# Altium schematic symbol library Crystals.SchLib: 2 symbols
Pins are listed as number, name and electrical type; pins without a type are passive.

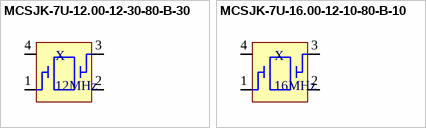
[diagram p0: symbols MCSJK-7U-12.00-12-30-80-B-30 to MCSJK-7U-16.00-12-10-80-B-10]

## MCSJK-7U-12.00-12-30-80-B-30
designator X, comment 12MHz
Crystal 12MHz 3.2mm x 2.5mm; Supplier Part Number 1: 2853917; Supplier 1: Farnell
footprint MCSJK-7U-12.00-12-30-80-B-30
pins: 1 2, 2, 3 2, 4

## MCSJK-7U-16.00-12-10-80-B-10
designator X, comment 16MHz
Crystal 16MHx 3.2mm x 2.5mm; Supplier 1: Farnell; Supplier Part Number 1: 2853936
footprint MCSJK-7U-16.00-12-10-80-B-10
pins: 1 2, 2, 3 2, 4